# Altium footprint library Capacitor_THT.PcbLib: 378 footprints (part 18 of 24)
Each footprint in its own frame and in the unit in brackets; x right, y up, seen from the top. Pads: shape width x height; smd on the part's side, far side on the other; paste and mask are expansions set on the pad; w line width, h text height; cw(c..) or ccw(c..) is an arc to the next point about the centre after c.
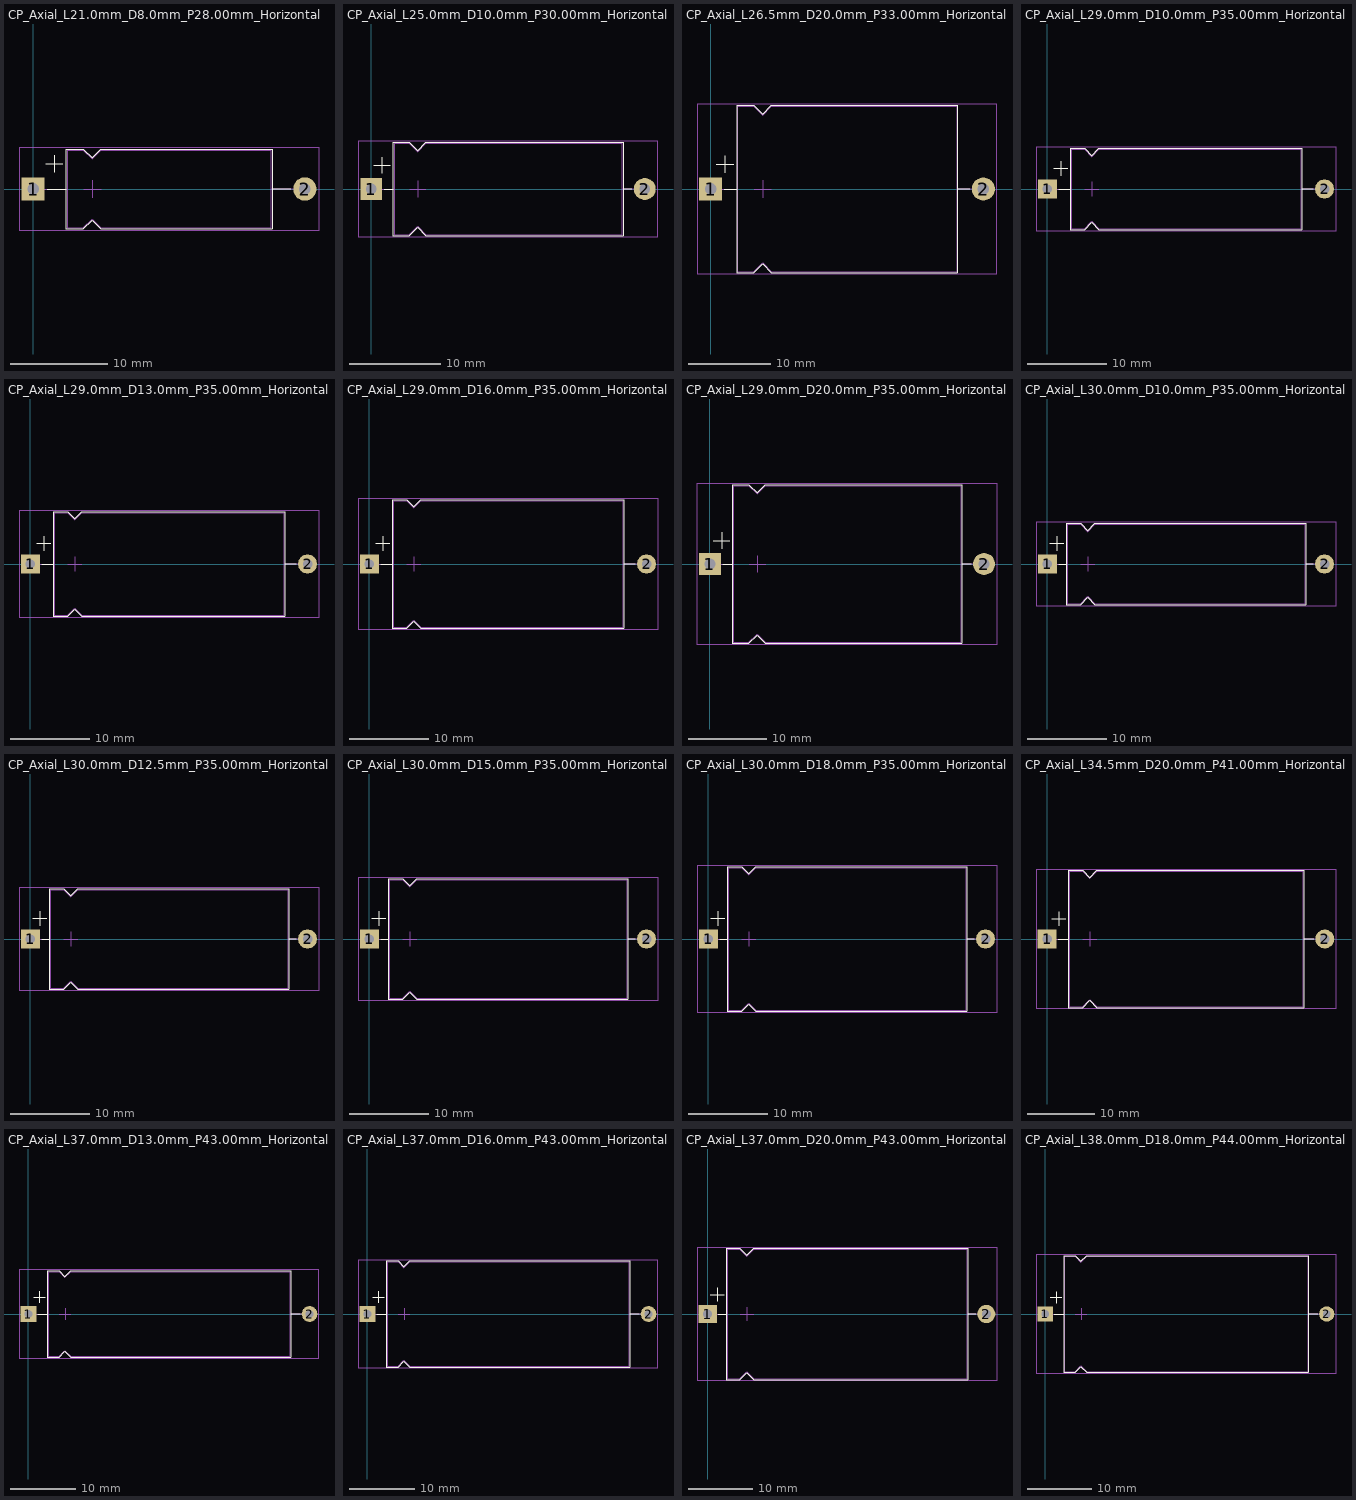
[diagram p17: the footprints below, top view; thin cyan lines are the x and y axes]

## CP_Axial_L21.0mm_D8.0mm_P28.00mm_Horizontal [mm]
pads (2):
  rect 2.4x2.4 hole 1.2: 1(0,0)
  rrect100% 2.4x2.4 hole 1.2: 2(28,0)
F.SilkS:
  lines w0.12: 1.28,2.6 3.08,2.6 ; 1.44,0 3.38,0 ; 2.18,1.7 2.18,3.5 ; 24.62,0 26.56,0 ; 3.38,-4.12 5.18,-4.12 6.08,-3.22 6.98,-4.12 24.62,-4.12 24.62,4.12 6.98,4.12 6.08,3.22 5.18,4.12 3.38,4.12 3.38,-4.12
F.CrtYd:
  lines w0.05: -1.45,-4.25 29.45,-4.25 29.45,4.25 -1.45,4.25 -1.45,-4.25
F.Fab:
  lines w0.1: 0,0 3.5,0 ; 5.2,0 7,0 ; 6.1,-0.9 6.1,0.9 ; 24.5,0 28,0 ; 3.5,-4 3.5,4 5.18,4 6.08,3.1 6.98,4 24.5,4 24.5,-4 6.98,-4 6.08,-3.1 5.18,-4 3.5,-4
  text "'.Designator'" at 9.953,-0.84 h1

## CP_Axial_L25.0mm_D10.0mm_P30.00mm_Horizontal [mm]
pads (2):
  rect 2.4x2.4 hole 1.2: 1(0,0)
  rrect100% 2.4x2.4 hole 1.2: 2(30,0)
F.SilkS:
  lines w0.12: 0.28,2.6 2.08,2.6 ; 1.18,1.7 1.18,3.5 ; 1.44,0 2.38,0 ; 27.62,0 28.56,0 ; 2.38,-5.12 2.38,5.12 4.18,5.12 5.08,4.22 5.98,5.12 27.62,5.12 27.62,-5.12 5.98,-5.12 5.08,-4.22 4.18,-5.12 2.38,-5.12
F.CrtYd:
  lines w0.05: -1.45,-5.25 -1.45,5.25 31.45,5.25 31.45,-5.25 -1.45,-5.25
F.Fab:
  lines w0.1: 0,0 2.5,0 ; 4.2,0 6,0 ; 5.1,-0.9 5.1,0.9 ; 27.5,0 30,0 ; 2.5,-5 2.5,5 4.18,5 5.08,4.1 5.98,5 27.5,5 27.5,-5 5.98,-5 5.08,-4.1 4.18,-5 2.5,-5
  text "'.Designator'" at 10.953,-0.84 h1

## CP_Axial_L26.5mm_D20.0mm_P33.00mm_Horizontal [mm]
pads (2):
  rect 2.8x2.8 hole 1.4: 1(0,0)
  rrect100% 2.8x2.8 hole 1.4: 2(33,0)
F.SilkS:
  lines w0.12: 0.68,3 2.78,3 ; 1.64,0 3.13,0 ; 1.73,1.95 1.73,4.05 ; 29.87,0 31.36,0 ; 3.13,-10.12 3.13,10.12 5.23,10.12 6.28,9.07 7.33,10.12 29.87,10.12 29.87,-10.12 7.33,-10.12 6.28,-9.07 5.23,-10.12 3.13,-10.12
F.CrtYd:
  lines w0.05: -1.65,-10.25 -1.65,10.25 34.65,10.25 34.65,-10.25 -1.65,-10.25
F.Fab:
  lines w0.1: 0,0 3.25,0 ; 5.25,0 7.35,0 ; 6.3,-1.05 6.3,1.05 ; 29.75,0 33,0 ; 3.25,-10 3.25,10 5.23,10 6.28,8.95 7.33,10 29.75,10 29.75,-10 7.33,-10 6.28,-8.95 5.23,-10 3.25,-10
  text "'.Designator'" at 12.453,-0.84 h1

## CP_Axial_L29.0mm_D10.0mm_P35.00mm_Horizontal [mm]
pads (2):
  rect 2.4x2.4 hole 1.2: 1(0,0)
  rrect100% 2.4x2.4 hole 1.2: 2(35,0)
F.SilkS:
  lines w0.12: 0.78,2.6 2.58,2.6 ; 1.44,0 2.88,0 ; 1.68,1.7 1.68,3.5 ; 32.12,0 33.56,0 ; 2.88,-5.12 4.68,-5.12 5.58,-4.22 6.48,-5.12 32.12,-5.12 32.12,5.12 6.48,5.12 5.58,4.22 4.68,5.12 2.88,5.12 2.88,-5.12
F.CrtYd:
  lines w0.05: -1.45,-5.25 36.45,-5.25 36.45,5.25 -1.45,5.25 -1.45,-5.25
F.Fab:
  lines w0.1: 0,0 3,0 ; 4.7,0 6.5,0 ; 5.6,-0.9 5.6,0.9 ; 32,0 35,0 ; 3,-5 3,5 4.68,5 5.58,4.1 6.48,5 32,5 32,-5 6.48,-5 5.58,-4.1 4.68,-5 3,-5
  text "'.Designator'" at 13.453,-0.84 h1

## CP_Axial_L29.0mm_D13.0mm_P35.00mm_Horizontal [mm]
pads (2):
  rect 2.4x2.4 hole 1.2: 1(0,0)
  rrect100% 2.4x2.4 hole 1.2: 2(35,0)
F.SilkS:
  lines w0.12: 0.78,2.6 2.58,2.6 ; 1.44,0 2.88,0 ; 1.68,1.7 1.68,3.5 ; 32.12,0 33.56,0 ; 2.88,-6.62 4.68,-6.62 5.58,-5.72 6.48,-6.62 32.12,-6.62 32.12,6.62 6.48,6.62 5.58,5.72 4.68,6.62 2.88,6.62 2.88,-6.62
F.CrtYd:
  lines w0.05: -1.45,-6.75 36.45,-6.75 36.45,6.75 -1.45,6.75 -1.45,-6.75
F.Fab:
  lines w0.1: 0,0 3,0 ; 4.7,0 6.5,0 ; 5.6,-0.9 5.6,0.9 ; 32,0 35,0 ; 3,-6.5 4.68,-6.5 5.58,-5.6 6.48,-6.5 32,-6.5 32,6.5 6.48,6.5 5.58,5.6 4.68,6.5 3,6.5 3,-6.5
  text "'.Designator'" at 13.453,-0.84 h1

## CP_Axial_L29.0mm_D16.0mm_P35.00mm_Horizontal [mm]
pads (2):
  rect 2.4x2.4 hole 1.2: 1(0,0)
  rrect100% 2.4x2.4 hole 1.2: 2(35,0)
F.SilkS:
  lines w0.12: 0.78,2.6 2.58,2.6 ; 1.44,0 2.88,0 ; 1.68,1.7 1.68,3.5 ; 32.12,0 33.56,0 ; 2.88,-8.12 4.68,-8.12 5.58,-7.22 6.48,-8.12 32.12,-8.12 32.12,8.12 6.48,8.12 5.58,7.22 4.68,8.12 2.88,8.12 2.88,-8.12
F.CrtYd:
  lines w0.05: -1.45,-8.25 -1.45,8.25 36.45,8.25 36.45,-8.25 -1.45,-8.25
F.Fab:
  lines w0.1: 0,0 3,0 ; 4.7,0 6.5,0 ; 5.6,-0.9 5.6,0.9 ; 32,0 35,0 ; 3,-8 3,8 4.68,8 5.58,7.1 6.48,8 32,8 32,-8 6.48,-8 5.58,-7.1 4.68,-8 3,-8
  text "'.Designator'" at 13.453,-0.84 h1

## CP_Axial_L29.0mm_D20.0mm_P35.00mm_Horizontal [mm]
pads (2):
  rect 2.8x2.8 hole 1.4: 1(0,0)
  rrect100% 2.8x2.8 hole 1.4: 2(35,0)
F.SilkS:
  lines w0.12: 0.43,3 2.53,3 ; 1.48,1.95 1.48,4.05 ; 1.64,0 2.88,0 ; 32.12,0 33.36,0 ; 2.88,-10.12 2.88,10.12 4.98,10.12 6.03,9.07 7.08,10.12 32.12,10.12 32.12,-10.12 7.08,-10.12 6.03,-9.07 4.98,-10.12 2.88,-10.12
F.CrtYd:
  lines w0.05: -1.65,-10.25 -1.65,10.25 36.65,10.25 36.65,-10.25 -1.65,-10.25
F.Fab:
  lines w0.1: 0,0 3,0 ; 5,0 7.1,0 ; 6.05,-1.05 6.05,1.05 ; 32,0 35,0 ; 3,-10 3,10 4.98,10 6.03,8.95 7.08,10 32,10 32,-10 7.08,-10 6.03,-8.95 4.98,-10 3,-10
  text "'.Designator'" at 13.453,-0.84 h1

## CP_Axial_L30.0mm_D10.0mm_P35.00mm_Horizontal [mm]
pads (2):
  rect 2.4x2.4 hole 1.2: 1(0,0)
  rrect100% 2.4x2.4 hole 1.2: 2(35,0)
F.SilkS:
  lines w0.12: 0.28,2.6 2.08,2.6 ; 1.18,1.7 1.18,3.5 ; 1.44,0 2.38,0 ; 32.62,0 33.56,0 ; 2.38,-5.12 4.18,-5.12 5.08,-4.22 5.98,-5.12 32.62,-5.12 32.62,5.12 5.98,5.12 5.08,4.22 4.18,5.12 2.38,5.12 2.38,-5.12
F.CrtYd:
  lines w0.05: -1.45,-5.25 36.45,-5.25 36.45,5.25 -1.45,5.25 -1.45,-5.25
F.Fab:
  lines w0.1: 0,0 2.5,0 ; 4.2,0 6,0 ; 5.1,-0.9 5.1,0.9 ; 32.5,0 35,0 ; 2.5,-5 4.18,-5 5.08,-4.1 5.98,-5 32.5,-5 32.5,5 5.98,5 5.08,4.1 4.18,5 2.5,5 2.5,-5
  text "'.Designator'" at 13.453,-0.84 h1

## CP_Axial_L30.0mm_D12.5mm_P35.00mm_Horizontal [mm]
pads (2):
  rect 2.4x2.4 hole 1.2: 1(0,0)
  rrect100% 2.4x2.4 hole 1.2: 2(35,0)
F.SilkS:
  lines w0.12: 0.28,2.6 2.08,2.6 ; 1.18,1.7 1.18,3.5 ; 1.44,0 2.38,0 ; 32.62,0 33.56,0 ; 2.38,-6.37 2.38,6.37 4.18,6.37 5.08,5.47 5.98,6.37 32.62,6.37 32.62,-6.37 5.98,-6.37 5.08,-5.47 4.18,-6.37 2.38,-6.37
F.CrtYd:
  lines w0.05: -1.45,-6.5 36.45,-6.5 36.45,6.5 -1.45,6.5 -1.45,-6.5
F.Fab:
  lines w0.1: 0,0 2.5,0 ; 4.2,0 6,0 ; 5.1,-0.9 5.1,0.9 ; 32.5,0 35,0 ; 2.5,-6.25 4.18,-6.25 5.08,-5.35 5.98,-6.25 32.5,-6.25 32.5,6.25 5.98,6.25 5.08,5.35 4.18,6.25 2.5,6.25 2.5,-6.25
  text "'.Designator'" at 13.453,-0.84 h1

## CP_Axial_L30.0mm_D15.0mm_P35.00mm_Horizontal [mm]
pads (2):
  rect 2.4x2.4 hole 1.2: 1(0,0)
  rrect100% 2.4x2.4 hole 1.2: 2(35,0)
F.SilkS:
  lines w0.12: 0.28,2.6 2.08,2.6 ; 1.18,1.7 1.18,3.5 ; 1.44,0 2.38,0 ; 32.62,0 33.56,0 ; 2.38,-7.62 4.18,-7.62 5.08,-6.72 5.98,-7.62 32.62,-7.62 32.62,7.62 5.98,7.62 5.08,6.72 4.18,7.62 2.38,7.62 2.38,-7.62
F.CrtYd:
  lines w0.05: -1.45,-7.75 -1.45,7.75 36.45,7.75 36.45,-7.75 -1.45,-7.75
F.Fab:
  lines w0.1: 0,0 2.5,0 ; 4.2,0 6,0 ; 5.1,-0.9 5.1,0.9 ; 32.5,0 35,0 ; 2.5,-7.5 2.5,7.5 4.18,7.5 5.08,6.6 5.98,7.5 32.5,7.5 32.5,-7.5 5.98,-7.5 5.08,-6.6 4.18,-7.5 2.5,-7.5
  text "'.Designator'" at 13.453,-0.84 h1

## CP_Axial_L30.0mm_D18.0mm_P35.00mm_Horizontal [mm]
pads (2):
  rect 2.4x2.4 hole 1.2: 1(0,0)
  rrect100% 2.4x2.4 hole 1.2: 2(35,0)
F.SilkS:
  lines w0.12: 0.28,2.6 2.08,2.6 ; 1.18,1.7 1.18,3.5 ; 1.44,0 2.38,0 ; 32.62,0 33.56,0 ; 2.38,-9.12 4.18,-9.12 5.08,-8.22 5.98,-9.12 32.62,-9.12 32.62,9.12 5.98,9.12 5.08,8.22 4.18,9.12 2.38,9.12 2.38,-9.12
F.CrtYd:
  lines w0.05: -1.45,-9.25 -1.45,9.25 36.45,9.25 36.45,-9.25 -1.45,-9.25
F.Fab:
  lines w0.1: 0,0 2.5,0 ; 4.2,0 6,0 ; 5.1,-0.9 5.1,0.9 ; 32.5,0 35,0 ; 2.5,-9 2.5,9 4.18,9 5.08,8.1 5.98,9 32.5,9 32.5,-9 5.98,-9 5.08,-8.1 4.18,-9 2.5,-9
  text "'.Designator'" at 13.453,-0.84 h1

## CP_Axial_L34.5mm_D20.0mm_P41.00mm_Horizontal [mm]
pads (2):
  rect 2.8x2.8 hole 1.4: 1(0,0)
  rrect100% 2.8x2.8 hole 1.4: 2(41,0)
F.SilkS:
  lines w0.12: 0.68,3 2.78,3 ; 1.64,0 3.13,0 ; 1.73,1.95 1.73,4.05 ; 37.87,0 39.36,0 ; 3.13,-10.12 3.13,10.12 5.23,10.12 6.28,9.07 7.33,10.12 37.87,10.12 37.87,-10.12 7.33,-10.12 6.28,-9.07 5.23,-10.12 3.13,-10.12
F.CrtYd:
  lines w0.05: -1.65,-10.25 -1.65,10.25 42.65,10.25 42.65,-10.25 -1.65,-10.25
F.Fab:
  lines w0.1: 0,0 3.25,0 ; 5.25,0 7.35,0 ; 6.3,-1.05 6.3,1.05 ; 37.75,0 41,0 ; 3.25,-10 3.25,10 5.23,10 6.28,8.95 7.33,10 37.75,10 37.75,-10 7.33,-10 6.28,-8.95 5.23,-10 3.25,-10
  text "'.Designator'" at 16.453,-0.84 h1

## CP_Axial_L37.0mm_D13.0mm_P43.00mm_Horizontal [mm]
pads (2):
  rect 2.4x2.4 hole 1.2: 1(0,0)
  rrect100% 2.4x2.4 hole 1.2: 2(43,0)
F.SilkS:
  lines w0.12: 0.78,2.6 2.58,2.6 ; 1.44,0 2.88,0 ; 1.68,1.7 1.68,3.5 ; 40.12,0 41.56,0 ; 2.88,-6.62 2.88,6.62 4.68,6.62 5.58,5.72 6.48,6.62 40.12,6.62 40.12,-6.62 6.48,-6.62 5.58,-5.72 4.68,-6.62 2.88,-6.62
F.CrtYd:
  lines w0.05: -1.45,-6.75 -1.45,6.75 44.45,6.75 44.45,-6.75 -1.45,-6.75
F.Fab:
  lines w0.1: 0,0 3,0 ; 4.7,0 6.5,0 ; 5.6,-0.9 5.6,0.9 ; 40,0 43,0 ; 3,-6.5 3,6.5 4.68,6.5 5.58,5.6 6.48,6.5 40,6.5 40,-6.5 6.48,-6.5 5.58,-5.6 4.68,-6.5 3,-6.5
  text "'.Designator'" at 17.453,-0.84 h1

## CP_Axial_L37.0mm_D16.0mm_P43.00mm_Horizontal [mm]
pads (2):
  rect 2.4x2.4 hole 1.2: 1(0,0)
  rrect100% 2.4x2.4 hole 1.2: 2(43,0)
F.SilkS:
  lines w0.12: 0.78,2.6 2.58,2.6 ; 1.44,0 2.88,0 ; 1.68,1.7 1.68,3.5 ; 40.12,0 41.56,0 ; 2.88,-8.12 2.88,8.12 4.68,8.12 5.58,7.22 6.48,8.12 40.12,8.12 40.12,-8.12 6.48,-8.12 5.58,-7.22 4.68,-8.12 2.88,-8.12
F.CrtYd:
  lines w0.05: -1.45,-8.25 44.45,-8.25 44.45,8.25 -1.45,8.25 -1.45,-8.25
F.Fab:
  lines w0.1: 0,0 3,0 ; 4.7,0 6.5,0 ; 5.6,-0.9 5.6,0.9 ; 40,0 43,0 ; 3,-8 3,8 4.68,8 5.58,7.1 6.48,8 40,8 40,-8 6.48,-8 5.58,-7.1 4.68,-8 3,-8
  text "'.Designator'" at 17.453,-0.84 h1

## CP_Axial_L37.0mm_D20.0mm_P43.00mm_Horizontal [mm]
pads (2):
  rect 2.8x2.8 hole 1.4: 1(0,0)
  rrect100% 2.8x2.8 hole 1.4: 2(43,0)
F.SilkS:
  lines w0.12: 0.43,3 2.53,3 ; 1.48,1.95 1.48,4.05 ; 1.64,0 2.88,0 ; 40.12,0 41.36,0 ; 2.88,-10.12 2.88,10.12 4.98,10.12 6.03,9.07 7.08,10.12 40.12,10.12 40.12,-10.12 7.08,-10.12 6.03,-9.07 4.98,-10.12 2.88,-10.12
F.CrtYd:
  lines w0.05: -1.65,-10.25 44.65,-10.25 44.65,10.25 -1.65,10.25 -1.65,-10.25
F.Fab:
  lines w0.1: 0,0 3,0 ; 5,0 7.1,0 ; 6.05,-1.05 6.05,1.05 ; 40,0 43,0 ; 3,-10 3,10 4.98,10 6.03,8.95 7.08,10 40,10 40,-10 7.08,-10 6.03,-8.95 4.98,-10 3,-10
  text "'.Designator'" at 17.453,-0.84 h1

## CP_Axial_L38.0mm_D18.0mm_P44.00mm_Horizontal [mm]
pads (2):
  rect 2.4x2.4 hole 1.2: 1(0,0)
  rrect100% 2.4x2.4 hole 1.2: 2(44,0)
F.SilkS:
  lines w0.12: 0.78,2.6 2.58,2.6 ; 1.44,0 2.88,0 ; 1.68,1.7 1.68,3.5 ; 41.12,0 42.56,0 ; 2.88,-9.12 2.88,9.12 4.68,9.12 5.58,8.22 6.48,9.12 41.12,9.12 41.12,-9.12 6.48,-9.12 5.58,-8.22 4.68,-9.12 2.88,-9.12
F.CrtYd:
  lines w0.05: -1.45,-9.25 45.45,-9.25 45.45,9.25 -1.45,9.25 -1.45,-9.25
F.Fab:
  lines w0.1: 0,0 3,0 ; 4.7,0 6.5,0 ; 5.6,-0.9 5.6,0.9 ; 41,0 44,0 ; 3,-9 3,9 4.68,9 5.58,8.1 6.48,9 41,9 41,-9 6.48,-9 5.58,-8.1 4.68,-9 3,-9
  text "'.Designator'" at 17.953,-0.84 h1